# Altium schematic symbol library EXP_HW_V3.SchLib: 45 symbols
Pins are listed as number, name and electrical type; pins without a type are passive.

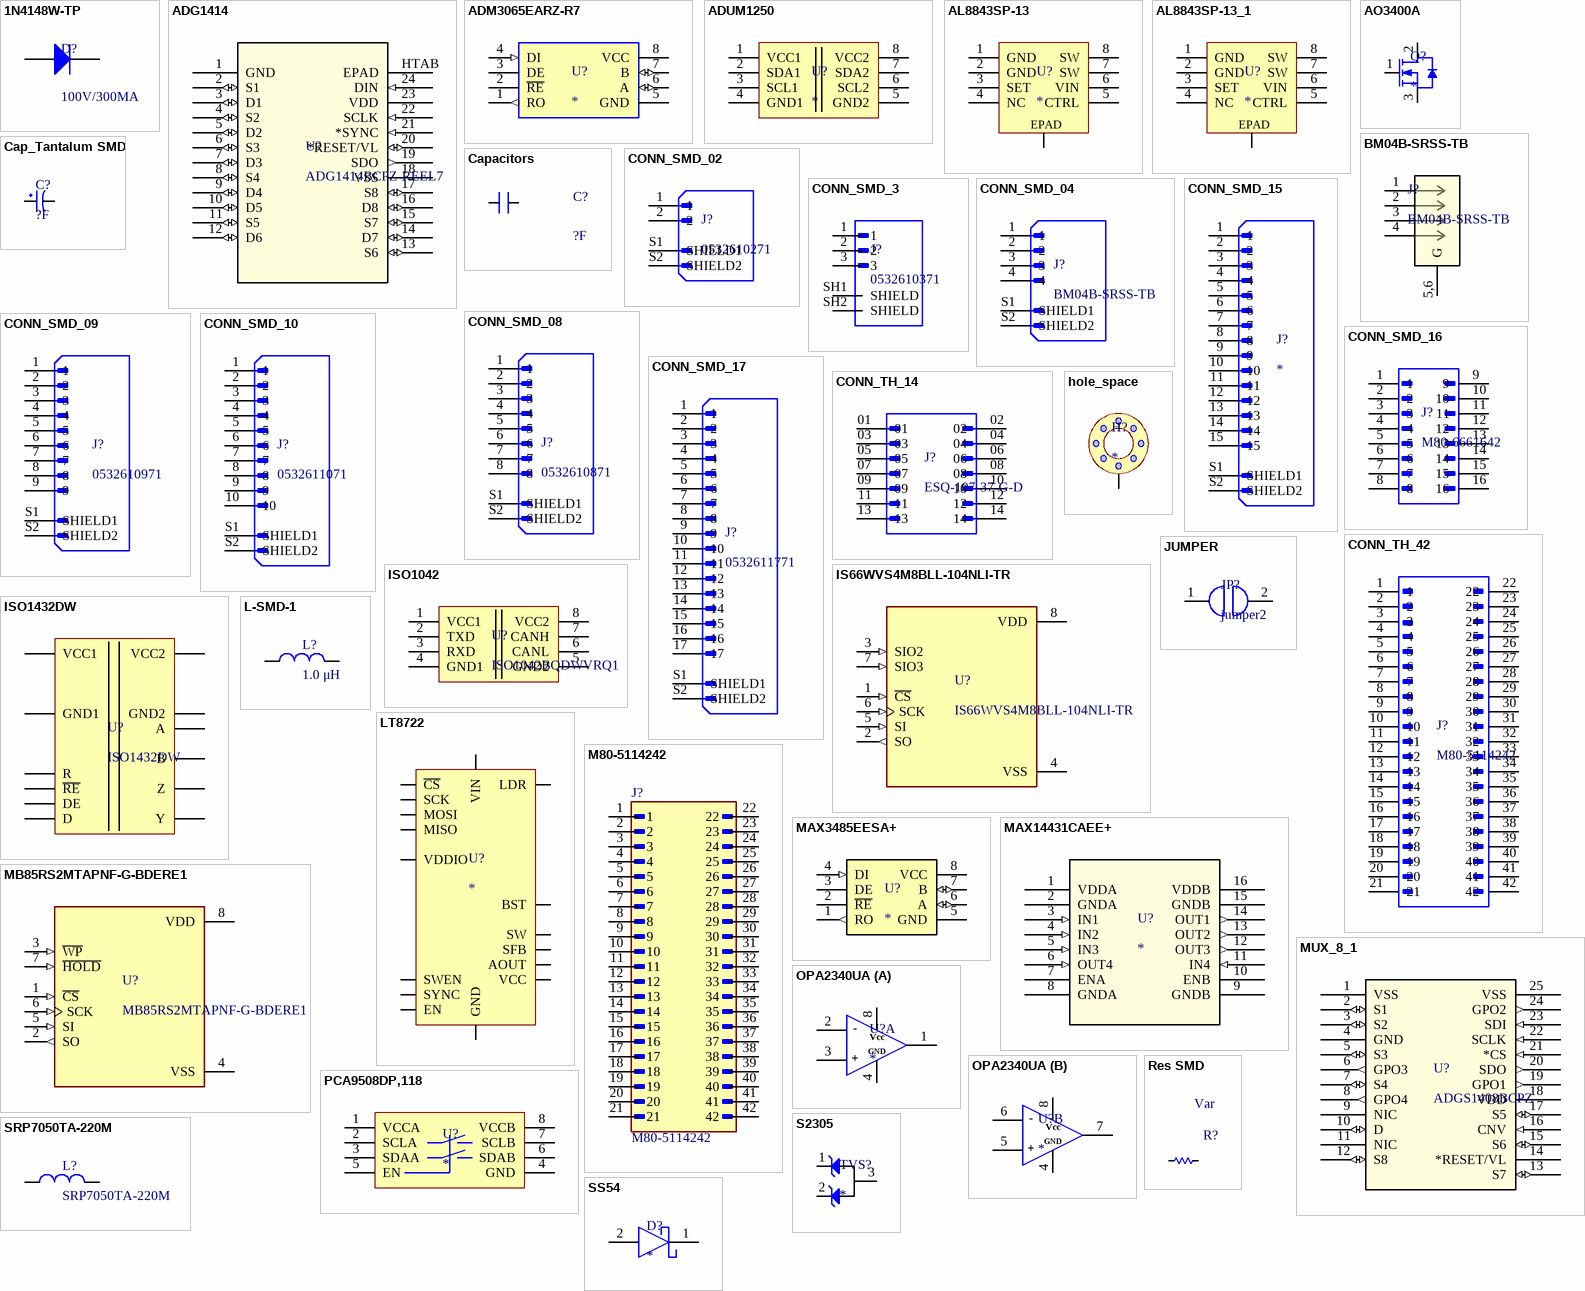
[diagram p0: symbols 1N4148W-TP to SS54]

## 1N4148W-TP
designator D?, comment 100V/300MA
DIODE GEN PURP 100V 300MA SOD123; MPN: 1N4148W-7-F; MFR: Diodes Incorporated; Solder: SMT; Value: 100V/300MA
footprint SOD-123-EXP-V101 (SOD123, 2-Leads, Body 2.6x1.6mm, Pitch 3.05mm, IPC High Density)
pins: 1 K, 2 A

## ADG1414
designator U?, comment ADG1414BCPZ-REEL7
IC SW SPST-NOX8 11.5OHM 24LFCSP
footprint ADG1414BCPZ-REEL7 (IC SW SPST-NOX8 11.5OHM 24LFCSP)
pins: 1 GND (power), 2 S1 (io), 3 D1 (io), 4 S2 (io), 5 D2 (io), 6 S3 (io), 7 D3 (io), 8 S4 (io), 9 D4 (io), 10 D5 (io), 11 S5 (io), 12 D6 (io), 13 S6 (io), 14 D7 (io), 15 S7 (io), 16 D8 (io), 17 S8 (io), 18 VSS (power), 19 SDO (out), 20 *RESET/VL (io), 21 *SYNC (in), 22 SCLK (in), 23 VDD (power), 24 DIN (in), HTAB EPAD

## ADM3065EARZ-R7
designator U?
IC TRANSCEIVER HALF 1/1 8SOIC; MF: Analog Devices; MP: MAX485CSA+T; SnapEDA_Link: https://www.snapeda.com/parts/MAX485CSA+T/Analog+Devices/view-part/?ref=snap; Package: SOIC-8 Maxim; Value: *; Check_prices: https://www.snapeda.com/parts/MAX485CSA+T/Analog+Devices/view-part/?ref=eda
footprint SOIC8_3.9mm (8-SOIC (0.154", 3.90mm Width))
pins: 1 RO (out), 2 ~{RE}, 3 DE, 4 DI (in), 5 GND (power), 6 A (io), 7 B (io), 8 VCC (power)

## ADUM1250
designator U?
footprint SOIC-8
pins: 1 VCC1, 2 SDA1, 3 SCL1, 4 GND1, 5 GND2, 6 SCL2, 7 SDA2, 8 VCC2

## AL8843SP-13
designator U?
IC LED DRIVER RGLTR PWM 3A 8SO
footprint SO8_EPAD
pins: 1 GND, 2 GND, 3 SET, 4 NC, 5 CTRL, 6 VIN, 7 SW, 8 SW, EPAD

## AL8843SP-13_1
designator U?
IC LED DRIVER RGLTR PWM 3A 8SO
footprint SO8_EPAD
pins: 1 GND, 2 GND, 3 SET, 4 NC, 5 CTRL, 6 VIN, 7 SW, 8 SW, EPAD

## AO3400A
designator Q?
MOSFET N-CH 30V 5.7A SOT23-3L
footprint SOT23-13_2 (SOT23, 1=bottom-left, 2=top, 3=bottom-right)
pins: 1 G, 2 D, 3 S

## BM04B-SRSS-TB
designator J?
CONN HEADER SMD 4POS 1MM
footprint BM04B-SRSS-TB (CONN HEADER SMD 4POS 1MM)
pins: 1, 2, 3, 4, 5,6 G

## Cap_Tantalum SMD
designator C?, comment ?F
SMD; Chung_Loai: Dán; Don_Vi: Con; So_Chan: 2; Ten_Linh_Kien: Tụ tantalum 477A-470uF 10V SMD7343; Ma_Hang: MH001956; Kieu_Chan: *
footprint SMD7343
footprint SMD6032
footprint SMD3528
footprint SMD3216
footprint TANTALUM_SMD_1206
pins: 1, 2

## Capacitors
designator C?, comment ?F
Value: 33pF
footprint CN-SMD-0603
footprint CN-SMD-0805
footprint CN-SMD-0402
footprint CN-SMD-1206
footprint CN-SMD-2520 (TOKO INDUCTOR DFE252012 SERIES)
footprint CN-SMD-3225 (Chip Capacitor, Body 3.2x2.5mm, IPC Medium Density)
footprint CAP_C_1608X80 (Chip Capacitor, 2-Leads, Body 1.60x0.80mm, IPC Medium Density)
pins: 1, 2

## CONN_SMD_02
designator J?, comment 0532610271
CONN HEADER SMD R/A 2POS 1.25MM
footprint 0532610271 (CONN HEADER SMD R/A 2POS 1.25MM)
pins: 1, 2, S1 SHIELD1, S2 SHIELD2

## CONN_SMD_3
designator J?, comment 0532610371
CONN HEADER SMD R/A 3POS 1.25MM
footprint 0532610371 (CONN HEADER SMD R/A 3POS 1.25MM)
pins: 1, 2, 3, SH1 SHIELD, SH2 SHIELD

## CONN_SMD_04
designator J?, comment BM04B-SRSS-TB
CONN HEADER SMD 4POS 1MM
footprint BM04B-SRSS-TB (CONN HEADER SMD 4POS 1MM)
pins: 1, 2, 3, 4, S1 SHIELD1, S2 SHIELD2

## CONN_SMD_08
designator J?, comment 0532610871
CONN HEADER SMD R/A 8POS 1.25MM
footprint 0532610871 (CONN HEADER SMD R/A 8POS 1.25MM)
pins: 1, 2, 3, 4, 5, 6, 7, 8, S1 SHIELD1, S2 SHIELD2

## CONN_SMD_09
designator J?, comment 0532610971
CONN HEADER SMD R/A 9POS 1.25MM
footprint 0532610971 (CONN HEADER SMD R/A 9POS 1.25MM)
pins: 1, 2, 3, 4, 5, 6, 7, 8, 9, S1 SHIELD1, S2 SHIELD2

## CONN_SMD_10
designator J?, comment 0532611071
CONN HEADER SMD R/A 10POS 1.25MM
footprint 0532611071 (CONN HEADER SMD R/A 10POS 1.25MM)
pins: 1, 2, 3, 4, 5, 6, 7, 8, 9, 10, S1 SHIELD1, S2 SHIELD2

## CONN_SMD_15
designator J?
Conn Shrouded Header (4 Sides) HDR 15 POS 1.25mm Solder RA Side Entry SMD PicoBladeâ„¢ T/R; MP: 532611571; MF: Molex; Package: None; Check_prices: https://www.snapeda.com/parts/532611571/Molex/view-part/?ref=eda; Purchase-URL: https://pricing.snapeda.com/search/part/532611571/?ref=eda; Value: *; Availability: In Stock; Price: None; SnapEDA_Link: https://www.snapeda.com/parts/532611571/Molex/view-part/?ref=snap
footprint 0532611571
pins: 1, 2, 3, 4, 5, 6, 7, 8, 9, 10, 11, 12, 13, 14, 15, S1 SHIELD1, S2 SHIELD2

## CONN_SMD_16
designator J?, comment M80-6661642
CONN HEADER SMD R/A 16POS 2MM
footprint M80-6661642 (CONN HEADER SMD R/A 16POS 2MM)
pins: 1, 2, 3, 4, 5, 6, 7, 8, 9, 10, 11, 12, 13, 14, 15, 16

## CONN_SMD_17
designator J?, comment 0532611771
CONN HEADER SMD R/A 17POS 1.25MM
footprint 0532611771 (CONN HEADER SMD R/A 17POS 1.25MM)
pins: 1, 2, 3, 4, 5, 6, 7, 8, 9, 10, 11, 12, 13, 14, 15, 16, 17, S1 SHIELD1, S2 SHIELD2

## CONN_TH_14
designator J?, comment ESQ-107-37-G-D
CONN SOCKET 14POS 0.1 GOLD PCB
footprint ESQ-107-37-G-D (CONN SOCKET 14POS 0.1 GOLD PCB)
pins: 01, 02, 03, 04, 05, 06, 07, 08, 09, 10, 11, 12, 13, 14

## CONN_TH_42
designator J?, comment M80-5114242
CONN HEADER VERT 42POS 2MM
footprint M80-5114242 (CONN HEADER VERT 42POS 2MM)
pins: 1, 2, 3, 4, 5, 6, 7, 8, 9, 10, 11, 12, 13, 14, 15, 16, 17, 18, 19, 20, 21, 22, 23, 24, 25, 26, 27, 28, 29, 30, 31, 32, 33, 34, 35, 36, 37, 38, 39, 40, 41, 42

## hole_space
designator H?
footprint HOLE_SPACE
pins: 1

## IS66WVS4M8BLL-104NLI-TR
designator U?
IC PSRAM 32MBIT SPI QPI 8SOIC; MF: Fujitsu Electronics; MP: MB85RS2MTAPNF-G-BDERE1; Package: SO-8 Fujitsu; Value: *; Digi-Key_Purchase_URL: https://www.digikey.com/product-detail/en/fujitsu-electronics-america-inc/MB85RS2MTAPNF-G-BDERE1/865-1286-1-ND/7916252?utm_source=snapeda&utm_medium=aggregator&utm_campaign=symbol; Digi-Key_Part_Number: 865-1286-1-ND; SnapEDA_Link: https://www.snapeda.com/parts/MB85RS2MTAPNF-G-BDERE1/Fujitsu%20Electronics%20America%2C%20Inc./view-part/2344795/?ref=snap
footprint IS66WVS4M8BLL-104NLI-TR
pins: 1 ~{CS} (in), 2 SO (out), 3 SIO2 (in), 4 VSS (power), 5 SI (in), 6 SCK (in), 7 SIO3 (in), 8 VDD (power)

## ISO1042
designator U?, comment ISO1042BQDWVRQ1
IC TRANSCEIVER FULL 1/1 8SOIC
footprint ISO1042 (IC TRANSCEIVER FULL 1/1 8SOIC)
pins: 1 VCC1, 2 TXD, 3 RXD, 4 GND1, 5 GND2, 6 CANL, 7 CANH, 8 VCC2

## ISO1432DW
designator U?
IC TRANSCEIVER FULL 1/1 16SOIC
footprint ISO1432DW (IC TRANSCEIVER FULL 1/1 16SOIC)
pins: 1 VCC1, 2,8 GND1, 3 R, 4 ~{RE}, 5 DE, 6 D, 9,15 GND2, 11 Y, 12 Z, 13 B, 14 A, 16 VCC2

## JUMPER
designator JP?, comment jumper2
footprint JUMPER2
footprint JUMPER
pins: 1, 2

## L-SMD-1
designator L?, comment 1.0 μH
partNo: 78477010; Manufacturer: Wurth Elektronik; Inductance: 1.0 μH; ComponentLink1Description: Manufacturer; ComponentLink1URL: http://www.we-online.de; Created by: Baojun Chen; Created Date: Nov.2015; ComponentLink2Description: Datasheet; ComponentLink2URL: http://katalog.we-online.de/pbs/datasheet/78477010.pdf
footprint PSM1040 (10x10x4mm)
footprint L-SMD-M-7.3x4.5 (WE-PDA SMD Shielded Power Inductor, 7345)
footprint L-SMD-M-6x6
footprint L-SMD-M-12x10 (WE-PDA SMD Shielded Power Inductor, 1210)
footprint L-SMD-M-12x8
footprint L-SMD-M-10x10
footprint L-SMD-0805
footprint L-SMD-1206
footprint L-SMD-0603
footprint L-SMD-M-3.5x3.5x2mm
pins: 1, 2

## LT8722
designator U?
footprint QFN18
pins: 1 SYNC, 2 VCC, 3 BST, 4,11 VIN, 5,10,21,22 GND, 6,7 SW, 8,9 LDR, 12 SFB, 13 SWEN, 14 VDDIO, 15 ~{CS}, 16 SCK, 17 MOSI, 18 MISO, 19 EN, 20 AOUT

## M80-5114242
designator J?
Package: None; Price: None; Value: *; MP: M80-5114242; Availability: Unavailable
footprint HARWIN_M80-5114242
pins: 1, 2, 3, 4, 5, 6, 7, 8, 9, 10, 11, 12, 13, 14, 15, 16, 17, 18, 19, 20, 21, 22, 23, 24, 25, 26, 27, 28, 29, 30, 31, 32, 33, 34, 35, 36, 37, 38, 39, 40, 41, 42

## MAX3485EESA+
designator U?
3.3V Powered, Â±15kV ESD-Protected, 12Mbps, Slew-Rate-Limited True RS-485/RS-422 Transceivers; MF: Analog Devices; MP: MAX3485EESA+; SnapEDA_Link: https://www.snapeda.com/parts/MAX3485EESA+/Analog+Devices/view-part/?ref=snap; Package: SOIC-8 Maxim; Value: *; Check_prices: https://www.snapeda.com/parts/MAX3485EESA+/Analog+Devices/view-part/?ref=eda
footprint SOIC8_3.9mm (8-SOIC (0.154", 3.90mm Width))
pins: 1 RO (out), 2 ~{RE}, 3 DE, 4 DI (in), 5 GND (power), 6 A (io), 7 B (io), 8 VCC (power)

## MAX14431CAEE+
designator U?
No Description Available; Mfr_Name: Analog Devices / Maxim Integrated; RefDes: RefDes; Type: Type
footprint 21-0055Q_E16MS+1F_MXM
pins: 1 VDDA (power), 2 GNDA (power), 3 IN1 (in), 4 IN2 (in), 5 IN3 (in), 6 OUT4 (in), 7 ENA, 8 GNDA (power), 9 GNDB (power), 10 ENB, 11 IN4 (in), 12 OUT3 (out), 13 OUT2 (out), 14 OUT1 (out), 15 GNDB (power), 16 VDDB (power)

## MB85RS2MTAPNF-G-BDERE1
designator U?
FRAM _Ferroelectric RAM_ Memory IC 2Mb _256K x 8_ SPI 40MHz 8-SOP; MF: Fujitsu Electronics; Package: SO-8 Fujitsu; Value: *; Digi-Key_Purchase_URL: https://www.digikey.com/product-detail/en/fujitsu-electronics-america-inc/MB85RS2MTAPNF-G-BDERE1/865-1286-1-ND/7916252?utm_source=snapeda&utm_medium=aggregator&utm_campaign=symbol; Digi-Key_Part_Number: 865-1286-1-ND; SnapEDA_Link: https://www.snapeda.com/parts/MB85RS2MTAPNF-G-BDERE1/Fujitsu%20Electronics%20America%2C%20Inc./view-part/2344795/?ref=snap; MP: MB85RS2MTAPNF-G-BDERE1
footprint MB85RS2MTAPNF-G-BDERE1
pins: 1 ~{CS} (in), 2 SO (out), 3 ~{WP} (in), 4 VSS (power), 5 SI (in), 6 SCK (in), 7 ~{HOLD} (in), 8 VDD (power)

## MUX_8_1
designator U?, comment ADGS1408BCPZ
IC MUX 8:1 4.7OHM 24LFCSP
footprint ADGS1408BCPZ (IC MUX 8:1 4.7OHM 24LFCSP)
pins: 1 VSS (power), 2 S1 (io), 3 S2 (io), 4 GND (power), 5 S3 (io), 6 GPO3 (out), 7 S4 (io), 8 GPO4 (out), 9 NIC, 10 D (io), 11 NIC, 12 S8 (io), 13 S7 (io), 14 *RESET/VL, 15 S6 (io), 16 CNV (in), 17 S5 (io), 18 VDD (power), 19 GPO1 (out), 20 SDO (out), 21 *CS (in), 22 SCLK (in), 23 SDI (in), 24 GPO2 (out), 25 VSS (power)

## OPA2340UA
designator U?
footprint SO8 (SOIC, 8-Leads, Body 4.9x3.9mm, Pitch 1.27mm, IPC High Density)
part A pins: 1, 2, 3, 4, 8
part B pins: 4, 5, 6, 7, 8
part A text: -; Vcc; GND; +
part B text: -; Vcc; GND; +

## PCA9508DP,118
designator U?
footprint TSOP8 (TSOP, 8-Leads, Body 3x3mm, Pitch 0.65mm, IPC High Density)
pins: 1 VCCA, 2 SCLA, 3 SDAA, 4 GND, 5 EN, 6 SDAB, 7 SCLB, 8 VCCB

## Res SMD
designator R?, comment Var
SMD; Manufacturer: Generic Components; Class: Passive; Published: 08/06/2000; Publisher: Altium Hobart Technology Centre
footprint RES-SMD-0101
footprint RES-SMD-0201
footprint RES-SMD-0603
footprint RES-SMD-0805
footprint RES-SMD-1206
footprint RES-SMD-1210 (Chip Capacitor, Body 3.2x2.5mm, IPC Medium Density)
footprint RES-SMD-1812 (Chip Capacitor, Body 3.2x2.5mm, IPC Medium Density)
footprint RES-SMD-2010 (Chip Capacitor, Body 3.2x2.5mm, IPC Medium Density)
footprint RES-SMD-2512 (Chip Capacitor, Body 3.2x2.5mm, IPC Medium Density)
footprint RES-SMD-0402
footprint RES_C_1608X60 (Chip Resistor, 2-Leads, Body 1.63x0.83mm, IPC High Density)
pins: 1, 2

## S2305
designator TVS?
TVS DIODE 5VWM 10.8VC SOT23
footprint sot23-12_3
pins: 1, 2, 3

## SRP7050TA-220M
designator L?
FIXED IND 22UH 2.5A 170 MOHM SMD
footprint PSM6050
pins: 1, 2

## SS54
designator D?
DIODE SCHOTTKY 60V 3A DO214AA
footprint DO214-AC-SMA
pins: 1, 2

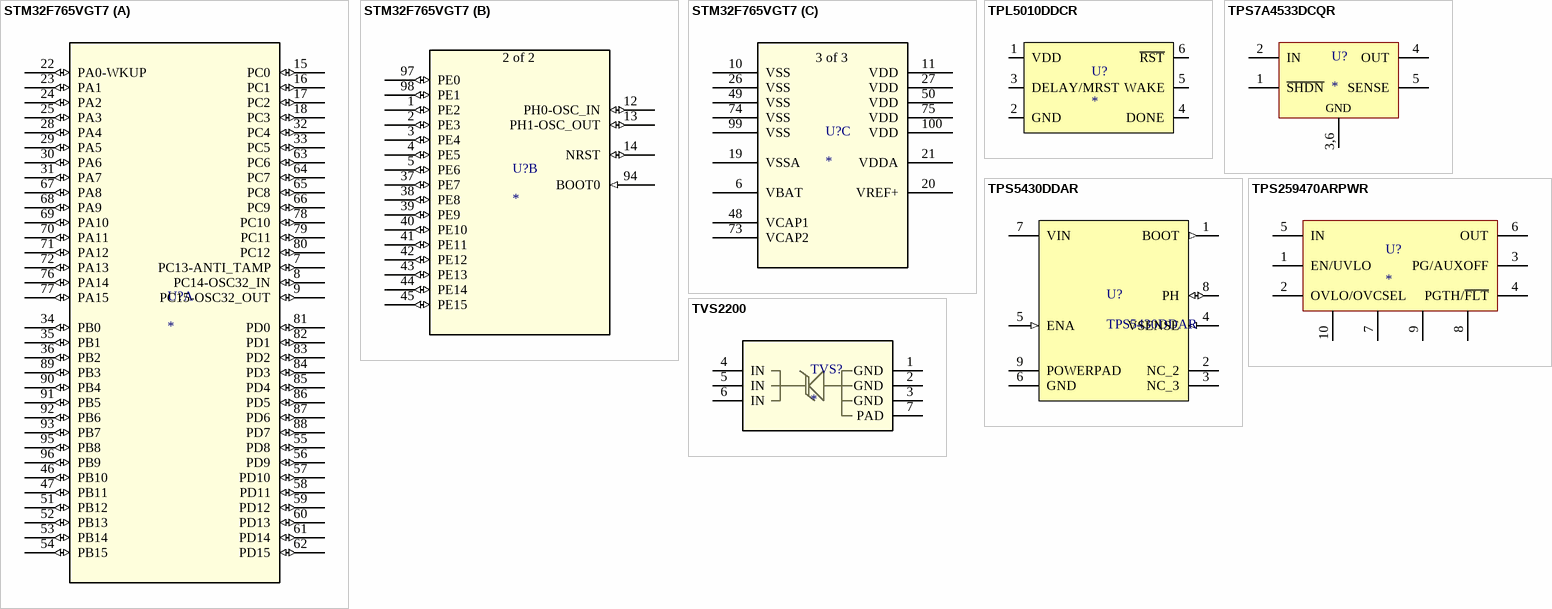
[diagram p1: symbols STM32F765VGT7 to TVS2200]

## STM32F765VGT7
designator U?
No Description Available; Mfr_Name: STMicroelectronics; RefDes: RefDes; Type: Type
footprint LQFP100_STM
part A pins: 7 PC13-ANTI_TAMP (io), 8 PC14-OSC32_IN (io), 9 PC15-OSC32_OUT (io), 15 PC0 (io), 16 PC1 (io), 17 PC2 (io), 18 PC3 (io), 22 PA0-WKUP (io), 23 PA1 (io), 24 PA2 (io), 25 PA3 (io), 28 PA4 (io), 29 PA5 (io), 30 PA6 (io), 31 PA7 (io), 32 PC4 (io), 33 PC5 (io), 34 PB0 (io), 35 PB1 (io), 36 PB2 (io), 46 PB10 (io), 47 PB11 (io), 51 PB12 (io), 52 PB13 (io), 53 PB14 (io), 54 PB15 (io), 55 PD8 (io), 56 PD9 (io), 57 PD10 (io), 58 PD11 (io), 59 PD12 (io), 60 PD13 (io), 61 PD14 (io), 62 PD15 (io), 63 PC6 (io), 64 PC7 (io), 65 PC8 (io), 66 PC9 (io), 67 PA8 (io), 68 PA9 (io), 69 PA10 (io), 70 PA11 (io), 71 PA12 (io), 72 PA13 (io), 76 PA14 (io), 77 PA15 (io), 78 PC10 (io), 79 PC11 (io), 80 PC12 (io), 81 PD0 (io), 82 PD1 (io), 83 PD2 (io), 84 PD3 (io), 85 PD4 (io), 86 PD5 (io), 87 PD6 (io), 88 PD7 (io), 89 PB3 (io), 90 PB4 (io), 91 PB5 (io), 92 PB6 (io), 93 PB7 (io), 95 PB8 (io), 96 PB9 (io)
part B pins: 1 PE2 (io), 2 PE3 (io), 3 PE4 (io), 4 PE5 (io), 5 PE6 (io), 12 PH0-OSC_IN (io), 13 PH1-OSC_OUT (io), 14 NRST (io), 37 PE7 (io), 38 PE8 (io), 39 PE9 (io), 40 PE10 (io), 41 PE11 (io), 42 PE12 (io), 43 PE13 (io), 44 PE14 (io), 45 PE15 (io), 94 BOOT0 (in), 97 PE0 (io), 98 PE1 (io)
part C pins: 6 VBAT (power), 10 VSS (power), 11 VDD (power), 19 VSSA (power), 20 VREF+ (power), 21 VDDA (power), 26 VSS (power), 27 VDD (power), 48 VCAP1 (power), 49 VSS (power), 50 VDD (power), 73 VCAP2 (power), 74 VSS (power), 75 VDD (power), 99 VSS (power), 100 VDD (power)
part B text: 2 of 2
part C text: 3 of 3

## TPL5010DDCR
designator U?
IC OSC PROG TIMER TSOT23-6
footprint TPL5010DDCR
pins: 1 VDD, 2 GND, 3 DELAY/MRST, 4 DONE, 5 WAKE, 6 ~{RST}

## TPS7A4533DCQR
designator U?
IC REG LINEAR 3.3V 1.5A SOT223-6
footprint SOT223_6 (SOT223, 6-Leads, Body 6.5x3.5mm, Pitch 2.3mm, Lead Span 7mm, IPC Medium Density)
pins: 1 ~{SHDN}, 2 IN, 3,6 GND, 4 OUT, 5 SENSE

## TPS5430DDAR
designator U?
IC REG BUCK ADJ 3A 8SOPWR
footprint TPS5430DDAR_V3 (IC REG BUCK ADJ 3A 8SOPWR)
pins: 1 BOOT (out), 2 NC_2, 3 NC_3, 4 VSENSE (in), 5 ENA (in), 6 GND (power), 7 VIN (power), 8 PH (io), 9 POWERPAD (power)

## TPS259470ARPWR
designator U?
footprint VQFN-HR-10
pins: 1 EN/UVLO, 2 OVLO/OVCSEL, 3 PG/AUXOFF, 4 PGTH/~{FLT}, 5 IN, 6 OUT, 7, 8, 9, 10

## TVS2200
designator TVS?
UNIDIR PRECISION SURGE DIODE
footprint TVS2200
pins: 1 GND, 2 GND, 3 GND, 4 IN, 5 IN, 6 IN, 7 PAD